# Altium footprint library LQFP50P3000X3000X160-208N.pcblib: 1 footprints
Each footprint in its own frame and in the unit in brackets; x right, y up, seen from the top. Pads: shape width x height; smd on the part's side, far side on the other; paste and mask are expansions set on the pad; w line width, h text height; cw(c..) or ccw(c..) is an arc to the next point about the centre after c.
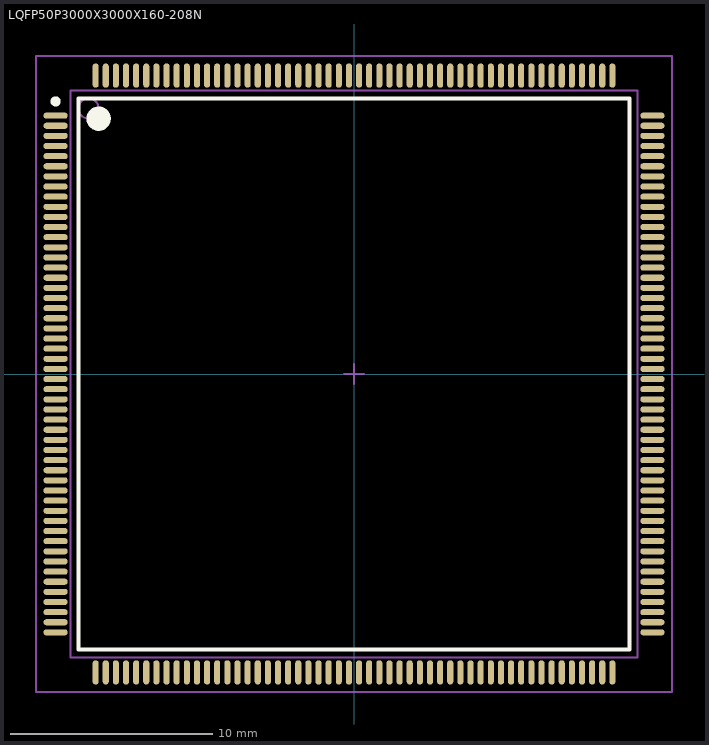
[diagram p0: the footprint, top view; thin cyan lines are the x and y axes]

## LQFP50P3000X3000X160-208N [mm] "LQFP, 208-Leads, Body 28,00x28,00mm, Pitch 0,50mm, IPC Medium Density"
height 1.6
pads (208):
  oval 1.2x0.3 smd: 1(-14.725,12.75) 2(-14.725,12.25) 3(-14.725,11.75) 4(-14.725,11.25) 5(-14.725,10.75) 6(-14.725,10.25) 7(-14.725,9.75) 8(-14.725,9.25) 9(-14.725,8.75) 10(-14.725,8.25) 11(-14.725,7.75) 12(-14.725,7.25) 13(-14.725,6.75) 14(-14.725,6.25) 15(-14.725,5.75) 16(-14.725,5.25) 17(-14.725,4.75) 18(-14.725,4.25) 19(-14.725,3.75) 20(-14.725,3.25) 21(-14.725,2.75) 22(-14.725,2.25) 23(-14.725,1.75) 24(-14.725,1.25) 25(-14.725,0.75) 26(-14.725,0.25) 27(-14.725,-0.25) 28(-14.725,-0.75) 29(-14.725,-1.25) 30(-14.725,-1.75) 31(-14.725,-2.25) 32(-14.725,-2.75) 33(-14.725,-3.25) 34(-14.725,-3.75) 35(-14.725,-4.25) 36(-14.725,-4.75) 37(-14.725,-5.25) 38(-14.725,-5.75) 39(-14.725,-6.25) 40(-14.725,-6.75) 41(-14.725,-7.25) 42(-14.725,-7.75) 43(-14.725,-8.25) 44(-14.725,-8.75) 45(-14.725,-9.25) 46(-14.725,-9.75) 47(-14.725,-10.25) 48(-14.725,-10.75) 49(-14.725,-11.25) 50(-14.725,-11.75) 51(-14.725,-12.25) 52(-14.725,-12.75) 105(14.725,-12.75) 106(14.725,-12.25) 107(14.725,-11.75) 108(14.725,-11.25) 109(14.725,-10.75) 110(14.725,-10.25) 111(14.725,-9.75) 112(14.725,-9.25) 113(14.725,-8.75) 114(14.725,-8.25) 115(14.725,-7.75) 116(14.725,-7.25) 117(14.725,-6.75) 118(14.725,-6.25) 119(14.725,-5.75) 120(14.725,-5.25) 121(14.725,-4.75) 122(14.725,-4.25) 123(14.725,-3.75) 124(14.725,-3.25) 125(14.725,-2.75) 126(14.725,-2.25) 127(14.725,-1.75) 128(14.725,-1.25) 129(14.725,-0.75) 130(14.725,-0.25) 131(14.725,0.25) 132(14.725,0.75) 133(14.725,1.25) 134(14.725,1.75) 135(14.725,2.25) 136(14.725,2.75) 137(14.725,3.25) 138(14.725,3.75) 139(14.725,4.25) 140(14.725,4.75) 141(14.725,5.25) 142(14.725,5.75) 143(14.725,6.25) 144(14.725,6.75) 145(14.725,7.25) 146(14.725,7.75) 147(14.725,8.25) 148(14.725,8.75) 149(14.725,9.25) 150(14.725,9.75) 151(14.725,10.25) 152(14.725,10.75) 153(14.725,11.25) 154(14.725,11.75) 155(14.725,12.25) 156(14.725,12.75)
  oval 0.3x1.2 smd: 53(-12.75,-14.725) 54(-12.25,-14.725) 55(-11.75,-14.725) 56(-11.25,-14.725) 57(-10.75,-14.725) 58(-10.25,-14.725) 59(-9.75,-14.725) 60(-9.25,-14.725) 61(-8.75,-14.725) 62(-8.25,-14.725) 63(-7.75,-14.725) 64(-7.25,-14.725) 65(-6.75,-14.725) 66(-6.25,-14.725) 67(-5.75,-14.725) 68(-5.25,-14.725) 69(-4.75,-14.725) 70(-4.25,-14.725) 71(-3.75,-14.725) 72(-3.25,-14.725) 73(-2.75,-14.725) 74(-2.25,-14.725) 75(-1.75,-14.725) 76(-1.25,-14.725) 77(-0.75,-14.725) 78(-0.25,-14.725) 79(0.25,-14.725) 80(0.75,-14.725) 81(1.25,-14.725) 82(1.75,-14.725) 83(2.25,-14.725) 84(2.75,-14.725) 85(3.25,-14.725) 86(3.75,-14.725) 87(4.25,-14.725) 88(4.75,-14.725) 89(5.25,-14.725) 90(5.75,-14.725) 91(6.25,-14.725) 92(6.75,-14.725) 93(7.25,-14.725) 94(7.75,-14.725) 95(8.25,-14.725) 96(8.75,-14.725) 97(9.25,-14.725) 98(9.75,-14.725) 99(10.25,-14.725) 100(10.75,-14.725) 101(11.25,-14.725) 102(11.75,-14.725) 103(12.25,-14.725) 104(12.75,-14.725) 157(12.75,14.725) 158(12.25,14.725) 159(11.75,14.725) 160(11.25,14.725) 161(10.75,14.725) 162(10.25,14.725) 163(9.75,14.725) 164(9.25,14.725) 165(8.75,14.725) 166(8.25,14.725) 167(7.75,14.725) 168(7.25,14.725) 169(6.75,14.725) 170(6.25,14.725) 171(5.75,14.725) 172(5.25,14.725) 173(4.75,14.725) 174(4.25,14.725) 175(3.75,14.725) 176(3.25,14.725) 177(2.75,14.725) 178(2.25,14.725) 179(1.75,14.725) 180(1.25,14.725) 181(0.75,14.725) 182(0.25,14.725) 183(-0.25,14.725) 184(-0.75,14.725) 185(-1.25,14.725) 186(-1.75,14.725) 187(-2.25,14.725) 188(-2.75,14.725) 189(-3.25,14.725) 190(-3.75,14.725) 191(-4.25,14.725) 192(-4.75,14.725) 193(-5.25,14.725) 194(-5.75,14.725) 195(-6.25,14.725) 196(-6.75,14.725) 197(-7.25,14.725) 198(-7.75,14.725) 199(-8.25,14.725) 200(-8.75,14.725) 201(-9.25,14.725) 202(-9.75,14.725) 203(-10.25,14.725) 204(-10.75,14.725) 205(-11.25,14.725) 206(-11.75,14.725) 207(-12.25,14.725) 208(-12.75,14.725)
Top Overlay:
  circle w0.6: c-12.6,12.6 r0.3
  circle w0.25: c-14.725,13.45 r0.125
  lines w0.2: -13.6,-13.6 13.6,-13.6 13.6,13.6 -13.6,13.6 -13.6,-13.6
Top Assembly:
  circle w0.1: c-13.1,13.1 r0.5
  lines w0.1: -14,-14 14,-14 14,14 -14,14 -14,-14
Top Courtyard:
  lines w0.1: -0.5,0 0.5,0 ; 0,-0.5 0,0.5 ; -15.7,-15.7 15.7,-15.7 15.7,15.7 -15.7,15.7 -15.7,-15.7
3D body "LQFP50P3000X3000X160-208N.step": height 1.6, standoff 0, extent -15,-15 15,15